# Altium footprint library misc_parts.PcbLib: 1 footprints
Each footprint in its own frame and in the unit in brackets; x right, y up, seen from the top. Pads: shape width x height; smd on the part's side, far side on the other; paste and mask are expansions set on the pad; w line width, h text height; cw(c..) or ccw(c..) is an arc to the next point about the centre after c.
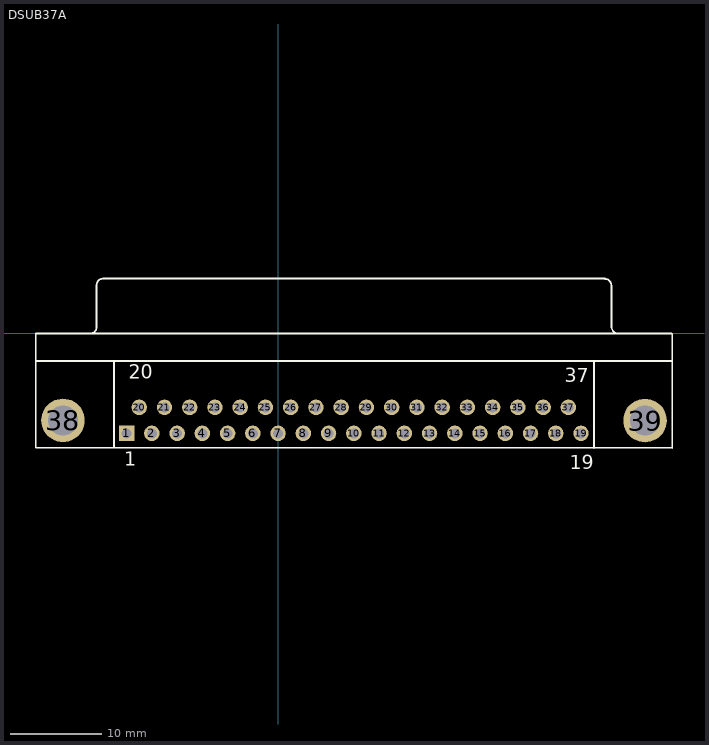
[diagram p0: the footprint, top view; thin cyan lines are the x and y axes]

## DSUB37A [mm] "Connector; D Subminiature; 37 Position; Right Angle; Pitch 1.385 mm"
height 12.93
pads (39):
  rect 1.69x1.69 hole 1.09: 1(-16.566,-10.92)
  round 1.69 hole 1.09: 2(-13.805,-10.92) 3(-11.044,-10.92) 4(-8.283,-10.92) 5(-5.522,-10.92) 6(-2.761,-10.92) 7(0,-10.92) 8(2.761,-10.92) 9(5.522,-10.92) 10(8.283,-10.92) 11(11.044,-10.92) 12(13.805,-10.92) 13(16.566,-10.92) 14(19.327,-10.92) 15(22.088,-10.92) 16(24.849,-10.92) 17(27.61,-10.92) 18(30.371,-10.92) 19(33.132,-10.92) 20(-15.185,-8.08) 21(-12.424,-8.08) 22(-9.663,-8.08) 23(-6.902,-8.08) 24(-4.141,-8.08) 25(-1.38,-8.08) 26(1.381,-8.08) 27(4.142,-8.08) 28(6.903,-8.08) 29(9.664,-8.08) 30(12.425,-8.08) 31(15.186,-8.08) 32(17.947,-8.08) 33(20.708,-8.08) 34(23.469,-8.08) 35(26.23,-8.08) 36(28.991,-8.08) 37(31.752,-8.08)
  round 4.76 hole 3.26: 38(-23.526,-9.5) 39(40.132,-9.525)
Top Overlay:
  lines w0.2: -26.496,-3 43.102,-3 ; -20.541,0.005 ccw(c-20.541,0.7) -19.846,0.7 -19.846,5.3 ; -19.841,5.305 cw(c-19.146,5.305) -19.146,6 35.752,6 ; -17.946,-12.5 -17.946,-3 ; 34.552,-12.525 34.552,-3.025 ; 35.752,5.975 cw(c35.752,5.28) 36.447,5.28 ; 36.452,5.275 36.452,0.791 ccw(c37.263,0.791) 37.263,-0.02 ; 43.053,0 -26.496,0 -26.496,-12.5 43.102,-12.5 ; 43.102,-12.525 43.102,-0.025
  text "1" at -16.816,-14.475 h1.5
  text "19" at 31.877,-14.859 h1.5
  text "20" at -16.31,-4.975 h1.5
  text "37" at 31.369,-5.334 h1.5